# Altium footprint library DRA.PcbLib: 72 footprints (part 4 of 6)
Each footprint in its own frame and in the unit in brackets; x right, y up, seen from the top. Pads: shape width x height; smd on the part's side, far side on the other; paste and mask are expansions set on the pad; w line width, h text height; cw(c..) or ccw(c..) is an arc to the next point about the centre after c.
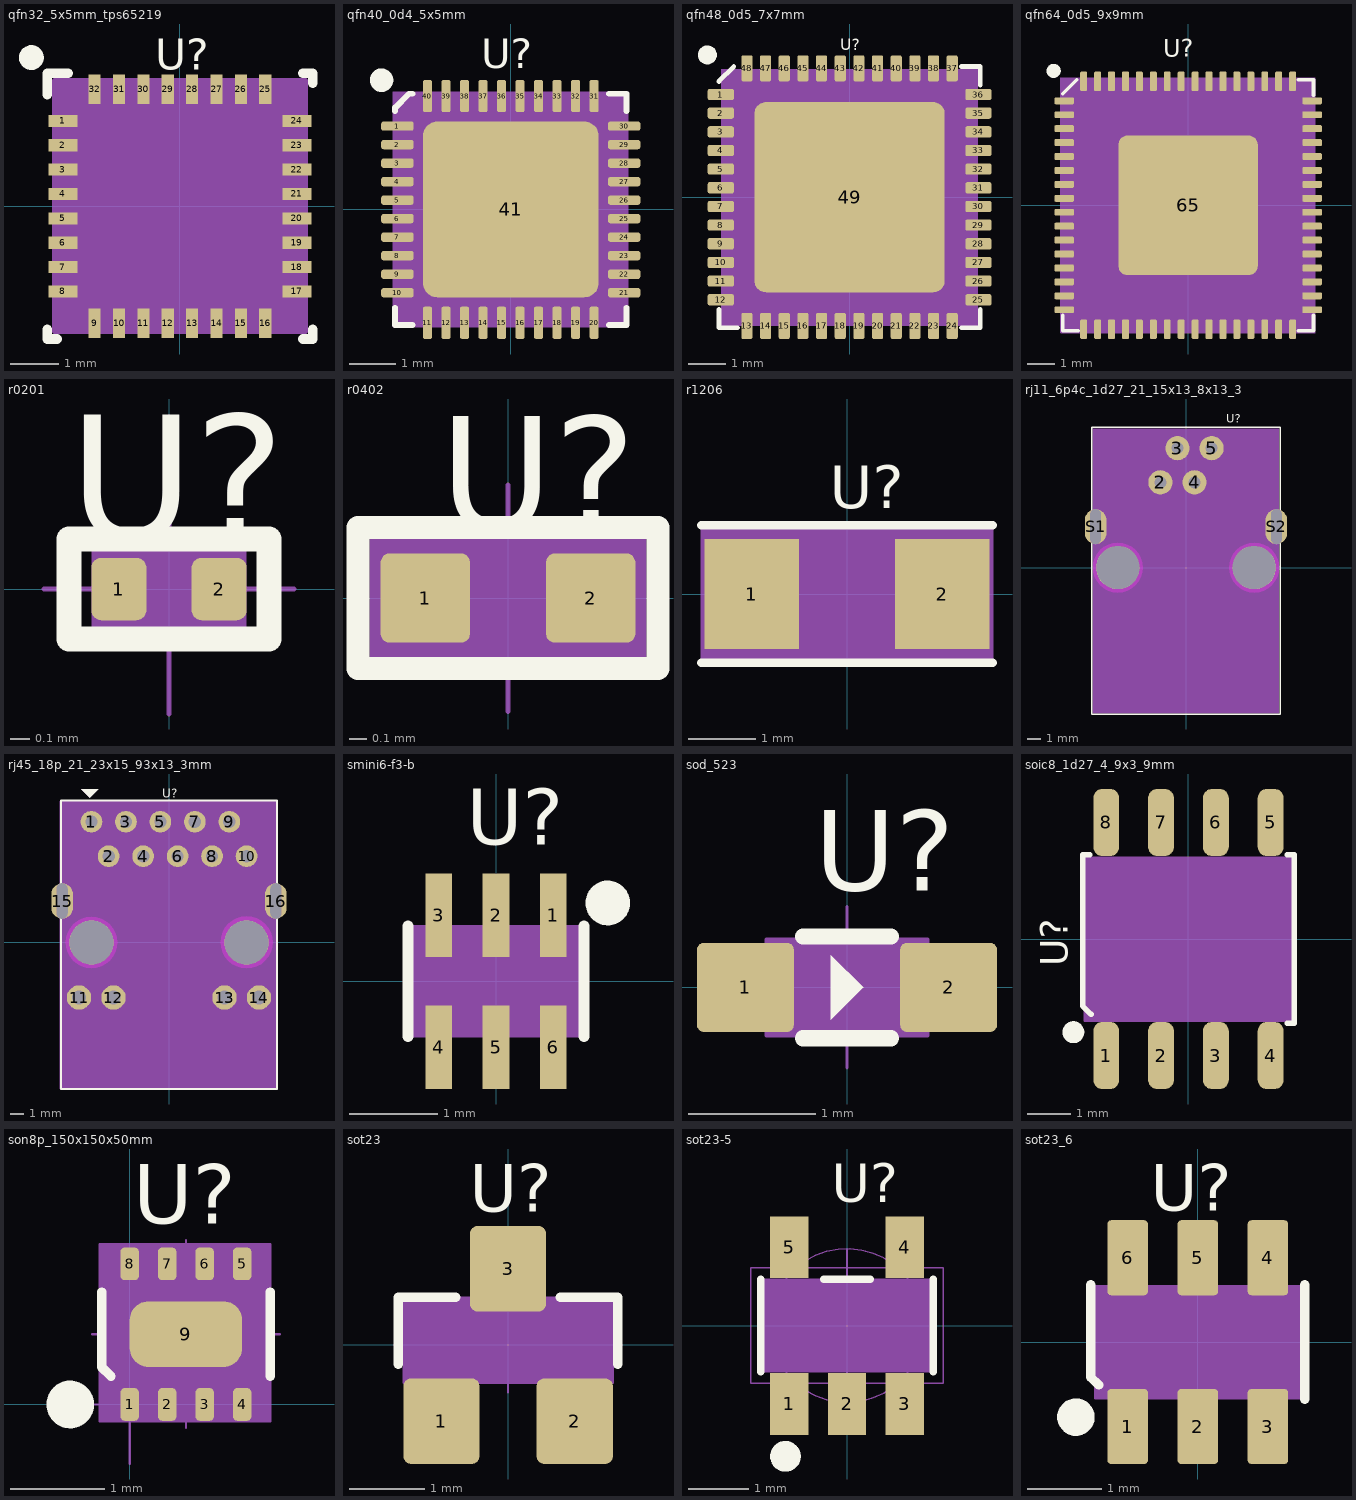
[diagram p3: the footprints below, top view; thin cyan lines are the x and y axes]

## qfn32_5x5mm_tps65219 [mil]
pads (33):
  rect 23.62x9.84 smd: 1(-94.49,68.9) 2(-94.49,49.21) 3(-94.49,29.53) 4(-94.49,9.84) 5(-94.49,-9.84) 6(-94.49,-29.53) 7(-94.49,-49.21) 8(-94.49,-68.9) 17(94.49,-68.9) 18(94.49,-49.21) 19(94.49,-29.53) 20(94.49,-9.84) 21(94.49,9.84) 22(94.49,29.53) 23(94.49,49.21) 24(94.49,68.9)
  rect 9.84x23.62 smd: 9(-68.9,-94.49) 10(-49.21,-94.49) 11(-29.53,-94.49) 12(-9.84,-94.49) 13(9.84,-94.49) 14(29.53,-94.49) 15(49.21,-94.49) 16(68.9,-94.49) 25(68.9,94.49) 26(49.21,94.49) 27(29.53,94.49) 28(9.84,94.49) 29(-9.84,94.49) 30(-29.53,94.49) 31(-49.21,94.49) 32(-68.9,94.49)
  rect 0x0 smd: 33(0,0)
Top Overlay:
  circle w10: c-120,120 r5
  lines w7.87: -107.28,-99.41 -107.28,-107.28 -99.41,-107.28 ; -107.28,90.16 -107.28,107.28 -90.16,107.28 ; 99.41,-107.28 107.28,-107.28 107.28,-99.41 ; 99.41,107.28 107.28,107.28 107.28,99.41
  text "U?" at -20,110 h25
Top Paste:
  dashed: 62.6,60.54 62.6,5.99 62.56,5.59 62.44,5.2 62.25,4.85 62,4.54 61.69,4.28 61.33,4.09 60.95,3.98 60.54,3.94 5.99,3.94 5.59,3.98 5.2,4.09 4.85,4.28 4.54,4.54 4.28,4.85 4.09,5.2 3.98,5.59 3.94,5.99 3.94,60.54 3.98,60.95 4.09,61.33 4.28,61.69 4.54,62 4.85,62.25 5.2,62.44 5.59,62.56 5.99,62.6 60.54,62.6 60.95,62.56 61.33,62.44 61.69,62.25 62,62 62.25,61.69 62.44,61.33 62.56,60.95
  dashed: -62.6,5.99 -62.6,60.54 -62.56,60.95 -62.44,61.33 -62.25,61.69 -62,62 -61.69,62.25 -61.33,62.44 -60.95,62.56 -60.54,62.6 -5.99,62.6 -5.59,62.56 -5.2,62.44 -4.85,62.25 -4.54,62 -4.28,61.69 -4.09,61.33 -3.98,60.95 -3.94,60.54 -3.94,5.99 -3.98,5.59 -4.09,5.2 -4.28,4.85 -4.54,4.54 -4.85,4.28 -5.2,4.09 -5.59,3.98 -5.99,3.94 -60.54,3.94 -60.95,3.98 -61.33,4.09 -61.69,4.28 -62,4.54 -62.25,4.85 -62.44,5.2 -62.56,5.59
  dashed: -62.6,-60.54 -62.6,-5.99 -62.56,-5.59 -62.44,-5.2 -62.25,-4.85 -62,-4.54 -61.69,-4.28 -61.33,-4.09 -60.95,-3.98 -60.54,-3.94 -5.99,-3.94 -5.59,-3.98 -5.2,-4.09 -4.85,-4.28 -4.54,-4.54 -4.28,-4.85 -4.09,-5.2 -3.98,-5.59 -3.94,-5.99 -3.94,-60.54 -3.98,-60.95 -4.09,-61.33 -4.28,-61.69 -4.54,-62 -4.85,-62.25 -5.2,-62.44 -5.59,-62.56 -5.99,-62.6 -60.54,-62.6 -60.95,-62.56 -61.33,-62.44 -61.69,-62.25 -62,-62 -62.25,-61.69 -62.44,-61.33 -62.56,-60.95
  dashed: 62.6,-5.99 62.6,-60.54 62.56,-60.95 62.44,-61.33 62.25,-61.69 62,-62 61.69,-62.25 61.33,-62.44 60.95,-62.56 60.54,-62.6 5.99,-62.6 5.59,-62.56 5.2,-62.44 4.85,-62.25 4.54,-62 4.28,-61.69 4.09,-61.33 3.98,-60.95 3.94,-60.54 3.94,-5.99 3.98,-5.59 4.09,-5.2 4.28,-4.85 4.54,-4.54 4.85,-4.28 5.2,-4.09 5.59,-3.98 5.99,-3.94 60.54,-3.94 60.95,-3.98 61.33,-4.09 61.69,-4.28 62,-4.54 62.25,-4.85 62.44,-5.2 62.56,-5.59
PLACE_BOUND_TOP:
  region: -100,100 -100,-100 100,-100 100,100
DRAWING_ORIGIN:
  lines w1: -25,0 25,0 ; 0,-25 0,25
PIN_NUMBER:
  text "3" at -104.49,29.53 h25
  text "5" at -104.49,-9.84 h25
  text "24" at 74.49,68.9 h25
  text "6" at -104.49,-29.53 h25
  text "7" at -104.49,-49.21 h25
  text "4" at -104.49,9.84 h25
  text "21" at 74.49,9.84 h25
  text "26" at 29.21,94.49 h25
  text "20" at 74.49,-9.84 h25
  text "11" at -49.53,-94.49 h25
  text "10" at -69.21,-94.49 h25
  text "23" at 74.49,49.21 h25
  text "15" at 29.21,-94.49 h25
  text "30" at -49.53,94.49 h25
  text "9" at -78.9,-94.49 h25
  text "29" at -29.84,94.49 h25
  text "22" at 74.49,29.53 h25
  text "16" at 48.9,-94.49 h25
  text "31" at -69.21,94.49 h25
  text "1" at -104.49,68.9 h25
  text "27" at 9.53,94.49 h25
  text "13" at -10.16,-94.49 h25
  text "32" at -88.9,94.49 h25
  text "19" at 74.49,-29.53 h25
  text "33" at -20,0 h25
  text "8" at -104.49,-68.9 h25
  text "28" at -10.16,94.49 h25
  text "18" at 74.49,-49.21 h25
  text "25" at 48.9,94.49 h25
  text "2" at -104.49,49.21 h25
  text "12" at -29.84,-94.49 h25
  text "17" at 74.49,-68.9 h25
  text "14" at 9.53,-94.49 h25
ASSEMBLY_TOP:
  circle w10: c-85,85 r5
  lines w3.94: -101.38,-101.38 -101.38,101.38 ; -101.38,-101.38 101.38,-101.38 ; -101.38,-101.38 101.38,-101.38 ; -101.38,-101.38 -101.38,101.38 ; -101.38,101.38 101.38,101.38 ; -101.38,101.38 101.38,101.38 ; 101.38,-101.38 101.38,101.38 ; 101.38,-101.38 101.38,101.38
  text "U?" at -30,35 h25
  text "U?" at 40,25 h25
3D body: height 150, standoff 0, extent -100,-100 100,100

## qfn40_0d4_5x5mm [mm]
pads (41):
  rrect50% 0.7x0.2 smd: 1(-2.45,1.8) 2(-2.45,1.4) 3(-2.45,1) 4(-2.45,0.6) 5(-2.45,0.2) 6(-2.45,-0.2) 7(-2.45,-0.6) 8(-2.45,-1) 9(-2.45,-1.4) 10(-2.45,-1.8) 21(2.45,-1.8) 22(2.45,-1.4) 23(2.45,-1) 24(2.45,-0.6) 25(2.45,-0.2) 26(2.45,0.2) 27(2.45,0.6) 28(2.45,1) 29(2.45,1.4) 30(2.45,1.8)
  rrect50% 0.2x0.7 smd: 11(-1.8,-2.45) 12(-1.4,-2.45) 13(-1,-2.45) 14(-0.6,-2.45) 15(-0.2,-2.45) 16(0.2,-2.45) 17(0.6,-2.45) 18(1,-2.45) 19(1.4,-2.45) 20(1.8,-2.45) 31(1.8,2.45) 32(1.4,2.45) 33(1,2.45) 34(0.6,2.45) 35(0.2,2.45) 36(-0.2,2.45) 37(-0.6,2.45) 38(-1,2.45) 39(-1.4,2.45) 40(-1.8,2.45)
  rrect16% 3.8x3.8 smd: 41(0,0)
Top Overlay:
  circle w0.254: c-2.794,2.794 r0.127
  lines w0.127: -2.5,-2.124 -2.5,-2.5 -2.124,-2.5 ; -2.5,2.124 -2.5,2.2 -2.2,2.5 -2.124,2.5 ; 2.124,-2.5 2.5,-2.5 2.5,-2.124 ; 2.124,2.5 2.5,2.5 2.5,2.124
  text "U?" at -0.635,3.048 h0.64
PLACE_BOUND_TOP:
  region: -2.54,2.54 -2.54,-2.54 2.54,-2.54 2.54,2.54
DRAWING_ORIGIN:
  lines w0.025: -0.635,0 0.635,0 ; 0,-0.635 0,0.635
PIN_NUMBER:
  text "3" at -2.958,1 h0.64
  text "5" at -2.958,0.2 h0.64
  text "24" at 1.942,-0.6 h0.64
  text "6" at -2.958,-0.2 h0.64
  text "7" at -2.958,-0.6 h0.64
  text "4" at -2.958,0.6 h0.64
  text "21" at 1.942,-1.8 h0.64
  text "37" at -1.108,2.45 h0.64
  text "26" at 1.942,0.2 h0.64
  text "20" at 1.292,-2.45 h0.64
  text "11" at -2.308,-2.45 h0.64
  text "10" at -3.466,-1.8 h0.64
  text "23" at 1.942,-1 h0.64
  text "15" at -0.708,-2.45 h0.64
  text "30" at 1.942,1.8 h0.64
  text "9" at -2.958,-1.4 h0.64
  text "29" at 1.942,1.4 h0.64
  text "35" at -0.308,2.45 h0.64
  text "22" at 1.942,-1.4 h0.64
  text "16" at -0.308,-2.45 h0.64
  text "31" at 1.292,2.45 h0.64
  text "1" at -2.958,1.8 h0.64
  text "41" at -0.508,0 h0.64
  text "27" at 1.942,0.6 h0.64
  text "13" at -1.508,-2.45 h0.64
  text "39" at -1.908,2.45 h0.64
  text "34" at 0.092,2.45 h0.64
  text "38" at -1.508,2.45 h0.64
  text "32" at 0.892,2.45 h0.64
  text "19" at 0.892,-2.45 h0.64
  text "33" at 0.492,2.45 h0.64
  text "8" at -2.958,-1 h0.64
  text "40" at -2.308,2.45 h0.64
  text "28" at 1.942,1 h0.64
  text "18" at 0.492,-2.45 h0.64
  text "25" at 1.942,-0.2 h0.64
  text "2" at -2.958,1.4 h0.64
  text "12" at -1.908,-2.45 h0.64
  text "36" at -0.708,2.45 h0.64
  text "17" at 0.092,-2.45 h0.64
  text "14" at -1.108,-2.45 h0.64
ASSEMBLY_TOP:
  circle w0.254: c-2.159,2.159 r0.127
  lines w0.025: -2.54,-2.54 -2.54,2.54 2.54,2.54 2.54,-2.54 -2.54,-2.54
  text "U?" at -0.381,0.889 h0.64
  text "U?" at -1.651,0.889 h0.64
3D body: height 3.81, standoff 0, extent -2.54,-2.54 2.54,2.54

## qfn48_0d5_7x7mm [mil]
pads (49):
  rrect33% 27.56x11.8 smd: 1(-135.83,108.27) 2(-135.83,88.58) 3(-135.83,68.9) 4(-135.83,49.21) 5(-135.83,29.53) 6(-135.83,9.84) 7(-135.83,-9.84) 8(-135.83,-29.53) 9(-135.83,-49.21) 10(-135.83,-68.9) 11(-135.83,-88.58) 12(-135.83,-108.27) 25(135.83,-108.27) 26(135.83,-88.58) 27(135.83,-68.9) 28(135.83,-49.21) 29(135.83,-29.53) 30(135.83,-9.84) 31(135.83,9.84) 32(135.83,29.53) 33(135.83,49.21) 34(135.83,68.9) 35(135.83,88.58) 36(135.83,108.27)
  rrect33% 11.8x27.56 smd: 13(-108.27,-135.83) 14(-88.58,-135.83) 15(-68.9,-135.83) 16(-49.21,-135.83) 17(-29.53,-135.83) 18(-9.84,-135.83) 19(9.84,-135.83) 20(29.53,-135.83) 21(49.21,-135.83) 22(68.9,-135.83) 23(88.58,-135.83) 24(108.27,-135.83) 37(108.27,135.83) 38(88.58,135.83) 39(68.9,135.83) 40(49.21,135.83) 41(29.53,135.83) 42(9.84,135.83) 43(-9.84,135.83) 44(-29.53,135.83) 45(-49.21,135.83) 46(-68.9,135.83) 47(-88.58,135.83) 48(-108.27,135.83)
  rrect12% 200.78x200.78 smd: 49(0,0)
Top Overlay:
  circle w10: c-150,150 r5
  lines w5: -137.8,-118.11 -137.8,-137.8 -118.11,-137.8 ; -137.8,122.05 -122.05,137.8 ; 118.11,-137.8 137.8,-137.8 137.8,-118.11 ; 118.11,137.8 137.8,137.8 137.8,118.11
  text "U?" at -10,155 h11.81
PLACE_BOUND_TOP:
  region: -135,-135 135,-135 135,135 -135,135
DRAWING_ORIGIN:
  lines w1: -25,0 25,0 ; 0,-25 0,25
PIN_NUMBER:
  text "3" at -145.28,68.9 h11.81
  text "5" at -145.28,29.53 h11.81
  text "24" at 98.82,-135.83 h11.81
  text "45" at -58.66,135.83 h11.81
  text "48" at -117.72,135.83 h11.81
  text "6" at -145.28,9.84 h11.81
  text "7" at -145.28,-9.84 h11.81
  text "4" at -145.28,49.21 h11.81
  text "21" at 39.76,-135.83 h11.81
  text "37" at 98.82,135.83 h11.81
  text "26" at 116.93,-88.58 h11.81
  text "20" at 20.08,-135.83 h11.81
  text "11" at -154.73,-88.58 h11.81
  text "42" at 0.39,135.83 h11.81
  text "10" at -154.73,-68.9 h11.81
  text "49" at -9.45,0 h11.81
  text "23" at 79.13,-135.83 h11.81
  text "46" at -78.35,135.83 h11.81
  text "15" at -78.35,-135.83 h11.81
  text "30" at 116.93,-9.84 h11.81
  text "9" at -145.28,-49.21 h11.81
  text "29" at 116.93,-29.53 h11.81
  text "35" at 116.93,88.58 h11.81
  text "22" at 59.45,-135.83 h11.81
  text "16" at -58.66,-135.83 h11.81
  text "31" at 116.93,9.84 h11.81
  text "1" at -145.28,108.27 h11.81
  text "41" at 20.08,135.83 h11.81
  text "27" at 116.93,-68.9 h11.81
  text "13" at -117.72,-135.83 h11.81
  text "43" at -19.29,135.83 h11.81
  text "39" at 59.45,135.83 h11.81
  text "34" at 116.93,68.9 h11.81
  text "38" at 79.13,135.83 h11.81
  text "47" at -98.03,135.83 h11.81
  text "32" at 116.93,29.53 h11.81
  text "19" at 0.39,-135.83 h11.81
  text "33" at 116.93,49.21 h11.81
  text "8" at -145.28,-29.53 h11.81
  text "44" at -38.98,135.83 h11.81
  text "40" at 39.76,135.83 h11.81
  text "28" at 116.93,-49.21 h11.81
  text "18" at -19.29,-135.83 h11.81
  text "25" at 116.93,-108.27 h11.81
  text "2" at -145.28,88.58 h11.81
  text "12" at -154.73,-108.27 h11.81
  text "36" at 116.93,108.27 h11.81
  text "17" at -38.98,-135.83 h11.81
  text "14" at -98.03,-135.83 h11.81
ASSEMBLY_TOP:
  circle w10: c-120,120 r5
  lines w1: -135,-135 -135,135 135,135 135,-135 -135,-135
  text "U?" at 20,110 h11.81
  text "U?" at -15,105 h11.81
3D body: height 150, standoff 0, extent -135,-135 135,135

## qfn64_0d5_9x9mm [mil]
pads (65):
  rrect40% 27.56x9.84 smd: 1(-175.2,147.64) 2(-175.2,127.95) 3(-175.2,108.27) 4(-175.2,88.58) 5(-175.2,68.9) 6(-175.2,49.21) 7(-175.2,29.53) 8(-175.2,9.84) 9(-175.2,-9.84) 10(-175.2,-29.53) 11(-175.2,-49.21) 12(-175.2,-68.9) 13(-175.2,-88.58) 14(-175.2,-108.27) 15(-175.2,-127.95) 16(-175.2,-147.64) 33(175.2,-147.64) 34(175.2,-127.95) 35(175.2,-108.27) 36(175.2,-88.58) 37(175.2,-68.9) 38(175.2,-49.21) 39(175.2,-29.53) 40(175.2,-9.84) 41(175.2,9.84) 42(175.2,29.53) 43(175.2,49.21) 44(175.2,68.9) 45(175.2,88.58) 46(175.2,108.27) 47(175.2,127.95) 48(175.2,147.64)
  rrect40% 9.84x27.56 smd: 17(-147.64,-175.2) 18(-127.95,-175.2) 19(-108.27,-175.2) 20(-88.58,-175.2) 21(-68.9,-175.2) 22(-49.21,-175.2) 23(-29.53,-175.2) 24(-9.84,-175.2) 25(9.84,-175.2) 26(29.53,-175.2) 27(49.21,-175.2) 28(68.9,-175.2) 29(88.58,-175.2) 30(108.27,-175.2) 31(127.95,-175.2) 32(147.64,-175.2) 49(147.64,175.2) 50(127.95,175.2) 51(108.27,175.2) 52(88.58,175.2) 53(68.9,175.2) 54(49.21,175.2) 55(29.53,175.2) 56(9.84,175.2) 57(-9.84,175.2) 58(-29.53,175.2) 59(-49.21,175.2) 60(-68.9,175.2) 61(-88.58,175.2) 62(-108.27,175.2) 63(-127.95,175.2) 64(-147.64,175.2)
  rrect12% 196.84x196.84 smd: 65(0,0)
Top Overlay:
  circle w10: c-190,190 r5
  lines w5: -177.17,-155.51 -177.17,-177.17 -155.51,-177.17 ; -177.17,157.48 -157.48,177.17 ; 155.51,-177.17 177.17,-177.17 177.17,-155.51 ; 155.51,177.17 177.17,177.17 177.17,155.51
  text "U?" at -35,210 h25
PLACE_BOUND_TOP:
  region: -180,-180 180,-180 180,180 -180,180
DRAWING_ORIGIN:
  lines w1: -25,0 25,0 ; 0,-25 0,25
PIN_NUMBER:
  text "3" at -195.2,108.27 h25
  text "5" at -195.2,68.9 h25
  text "24" at -29.84,-175.2 h25
  text "56" at -10.16,175.2 h25
  text "45" at 155.2,88.58 h25
  text "48" at 155.2,147.64 h25
  text "6" at -195.2,49.21 h25
  text "7" at -195.2,29.53 h25
  text "55" at 9.53,175.2 h25
  text "54" at 29.21,175.2 h25
  text "4" at -195.2,88.58 h25
  text "21" at -88.9,-175.2 h25
  text "64" at -167.64,175.2 h25
  text "37" at 155.2,-68.9 h25
  text "26" at 9.53,-175.2 h25
  text "53" at 48.9,175.2 h25
  text "20" at -108.58,-175.2 h25
  text "59" at -69.21,175.2 h25
  text "11" at -215.2,-49.21 h25
  text "42" at 155.2,29.53 h25
  text "10" at -215.2,-29.53 h25
  text "49" at 127.64,175.2 h25
  text "60" at -88.9,175.2 h25
  text "23" at -49.53,-175.2 h25
  text "61" at -108.58,175.2 h25
  text "50" at 107.95,175.2 h25
  text "46" at 155.2,108.27 h25
  text "15" at -215.2,-127.95 h25
  text "30" at 88.27,-175.2 h25
  text "9" at -195.2,-9.84 h25
  text "29" at 68.58,-175.2 h25
  text "62" at -128.27,175.2 h25
  text "65" at -20,0 h25
  text "35" at 155.2,-108.27 h25
  text "22" at -69.21,-175.2 h25
  text "51" at 88.27,175.2 h25
  text "16" at -215.2,-147.64 h25
  text "31" at 107.95,-175.2 h25
  text "1" at -195.2,147.64 h25
  text "41" at 155.2,9.84 h25
  text "27" at 29.21,-175.2 h25
  text "13" at -215.2,-88.58 h25
  text "43" at 155.2,49.21 h25
  text "58" at -49.53,175.2 h25
  text "39" at 155.2,-29.53 h25
  text "34" at 155.2,-127.95 h25
  text "38" at 155.2,-49.21 h25
  text "47" at 155.2,127.95 h25
  text "32" at 127.64,-175.2 h25
  text "19" at -128.27,-175.2 h25
  text "33" at 155.2,-147.64 h25
  text "57" at -29.84,175.2 h25
  text "63" at -147.95,175.2 h25
  text "52" at 68.58,175.2 h25
  text "8" at -195.2,9.84 h25
  text "44" at 155.2,68.9 h25
  text "40" at 155.2,-9.84 h25
  text "28" at 48.9,-175.2 h25
  text "18" at -147.95,-175.2 h25
  text "25" at -10.16,-175.2 h25
  text "2" at -195.2,127.95 h25
  text "12" at -215.2,-68.9 h25
  text "36" at 155.2,-88.58 h25
  text "17" at -167.64,-175.2 h25
  text "14" at -215.2,-108.27 h25
ASSEMBLY_TOP:
  circle w10: c-163.39,161.81 r5.01
  lines w1: -180,-180 -180,180 180,180 180,-180 -180,-180
  text "U?" at -25,30 h25
  text "U?" at 20,30 h25
3D body: height 150, standoff 0, extent -180,-180 180,180

## r0201 [mil]
pads (2):
  rrect36% 11x12.5 smd: 1(-10.03,0) 2(10.03,0)
Top Overlay:
  lines w5: -20,-10 -20,10 20,10 20,-10 -20,-10
  text "U?" at -20,10 h25
PLACE_BOUND_TOP:
  region: -15,-10 15,-10 15,10 -15,10
DRAWING_ORIGIN:
  lines w1: -25,0 25,0 ; 0,-25 0,25
PIN_NUMBER:
  text "2" at 0.03,0 h25
  text "1" at -20.03,0 h25
ASSEMBLY_TOP:
  lines w1: -15,-10 -15,10 15,10 15,-10 -15,-10
  text "U?" at -10,-10 h25
  text "U?" at -10,-5 h25
3D body: height 150, standoff 0, extent -15,-10 15,10

## r0402 [mil]
pads (2):
  rrect20% 19.68x19.68 smd: 1(-18.21,0) 2(18.21,0)
Top Overlay:
  lines w5: -33.03,-15.53 33.03,-15.53 33.03,15.53 -33.03,15.53 -33.03,-15.53
  text "U?" at -15,15 h25
PLACE_BOUND_TOP:
  region: -30,-15 30,-15 30,15 -30,15
DRAWING_ORIGIN:
  lines w1: -25,0 25,0 ; 0,-25 0,25
PIN_NUMBER:
  text "2" at 8.21,0 h25
  text "1" at -28.21,0 h25
ASSEMBLY_TOP:
  lines w1: -30,-15 -30,15 30,15 30,-15 -30,-15
  text "U?" at 5,-10 h25
  text "U?" at -15,-10 h25
3D body: height 150, standoff 0, extent -30,-15 30,15

## r1206 [mil]
pads (2):
  rect 55x64 smd: 1(-55.5,0) 2(55.5,0)
Top Overlay:
  lines w5: -85,-40 85,-40 ; -85,40 85,40
  text "U?" at -10,50 h25
PLACE_BOUND_TOP:
  region: -85,-40 85,-40 85,40 -85,40
DRAWING_ORIGIN:
  lines w1: -25,0 25,0 ; 0,-25 0,25
PIN_NUMBER:
  text "2" at 46.3,0 h23
  text "1" at -64.7,0 h23
ASSEMBLY_TOP:
  lines w1: -85,-40 -85,40 85,40 85,-40 -85,-40
  text "U?" at -15,-20 h25
  text "U?" at -15,0 h25
3D body: height 150, standoff 0, extent -85,-40 85,40

## rj11_6p4c_1d27_21_15x13_8x13_3 [mil]
pads (8):
  round 70.87 hole 35.43: 2(-75,250) 3(-25,350) 4(25,250) 5(75,350)
  oval 62.99x102.36 hole 31.5 slot 102.36 at 90 deg: S1(-264.96,120.08) S2(264.96,120.08)
  round 125.98 hole 125.98: ""(-200,0) ""(200,0)
Top Overlay:
  lines w3.94: -275.59,-429.13 -275.59,411.42 275.59,411.42 275.59,-429.13 -275.59,-429.13
  text "U?" at 118.11,425.2 h25
PLACE_BOUND_TOP:
  region: -271.65,407.48 -271.65,-425.2 271.65,-425.2 271.65,407.48
Multi-Layer keep-out:
  region: -126.82,0 -128.22,14.28 -132.39,28.01 -139.15,40.66 -148.25,51.75 -159.34,60.85 -171.99,67.61 -185.72,71.78 -200,73.18 -214.28,71.78 -228.01,67.61 -236.43,63.11 -240.66,60.85 -251.75,51.75 -260.85,40.66 -267.61,28.01 -271.78,14.28 -273.18,0 -271.78,-14.28 -267.61,-28.01 -260.85,-40.66 -251.75,-51.75 -240.66,-60.85 -236.43,-63.11 -228.01,-67.61 -214.28,-71.78 -200,-73.18 -185.72,-71.78 -171.99,-67.61 -159.34,-60.85 -148.25,-51.75 -139.15,-40.66 -132.39,-28.01 -128.22,-14.28
  region: 273.18,0 271.78,14.28 267.61,28.01 260.85,40.66 251.75,51.75 240.66,60.85 228.01,67.61 214.28,71.78 200,73.18 185.72,71.78 171.99,67.61 163.57,63.11 159.34,60.85 148.25,51.75 139.15,40.66 132.39,28.01 128.22,14.28 126.82,0 128.22,-14.28 132.39,-28.01 139.15,-40.66 148.25,-51.75 159.34,-60.85 163.57,-63.11 171.99,-67.61 185.72,-71.78 200,-73.18 214.28,-71.78 228.01,-67.61 240.66,-60.85 251.75,-51.75 260.85,-40.66 267.61,-28.01 271.78,-14.28
DRAWING_ORIGIN:
  lines w1: -25,0 25,0 ; 0,-25 0,25
PIN_NUMBER:
  text "3" at -35,350 h25
  text "4" at 15,250 h25
  text "5" at 65,350 h25
  text "S2" at 244.96,120.08 h25
  text "2" at -85,250 h25
  text "S1" at -284.96,120.08 h25
ASSEMBLY_TOP:
  lines w1: -271.65,-425.2 -271.65,407.48 271.65,407.48 271.65,-425.2 -271.65,-425.2
  text "U?" at 129.92,303.15 h25
  text "U?" at 129.92,342.52 h25
3D body: height 150, standoff 0, extent -271.65,-425.2 271.65,407.48

## rj45_18p_21_23x15_93x13_3mm [mil]
pads (18):
  round 62.99 hole 35.43: 1(-225,350) 2(-175,250) 3(-125,350) 4(-75,250) 5(-25,350) 6(25,250) 7(75,350) 8(125,250) 9(175,350) 10(225,250)
  round 70.87 hole 41.34: 11(-261.02,-159.84) 12(-161.02,-159.84) 13(161.02,-159.84) 14(261.02,-159.84)
  oval 62.99x102.36 hole 31.5 slot 102.36 at 90 deg: 15(-310.04,120.08) 16(310.04,120.08)
  round 127.95 hole 127.95: ""(-225,0) ""(225,0)
Top Overlay:
  dashed: -230,420 -255,445 -205,445
  lines w5: -313.58,-425.2 -313.58,411.42 313.58,411.42 313.58,-425.2 -313.58,-425.2
  text "U?" at -20,420 h25
PLACE_BOUND_TOP:
  region: -315,-425 315,-425 315,410 -315,410
Multi-Layer keep-out:
  region: -150.31,0 -151.75,14.57 -156,28.58 -162.9,41.5 -172.19,52.81 -183.5,62.1 -196.42,69 -210.43,73.25 -225,74.69 -239.57,73.25 -253.58,69 -262.18,64.41 -266.5,62.1 -277.81,52.81 -287.1,41.5 -294,28.58 -298.25,14.57 -299.69,0 -298.25,-14.57 -294,-28.58 -287.1,-41.5 -277.81,-52.81 -266.5,-62.1 -262.18,-64.41 -253.58,-69 -239.57,-73.25 -225,-74.69 -210.43,-73.25 -196.42,-69 -183.5,-62.1 -172.19,-52.81 -162.9,-41.5 -156,-28.58 -151.75,-14.57
  region: 300.53,0 299.08,14.74 294.78,28.91 287.8,41.96 278.41,53.41 266.96,62.8 253.91,69.78 239.74,74.08 225,75.53 210.26,74.08 196.09,69.78 187.39,65.13 183.04,62.8 171.59,53.41 162.2,41.96 155.22,28.91 150.92,14.74 149.47,0 150.92,-14.74 155.22,-28.91 162.2,-41.96 171.59,-53.41 183.04,-62.8 187.39,-65.13 196.09,-69.78 210.26,-74.08 225,-75.53 239.74,-74.08 253.91,-69.78 266.96,-62.8 278.41,-53.41 287.8,-41.96 294.78,-28.91 299.08,-14.74
DRAWING_ORIGIN:
  lines w1: -25,0 25,0 ; 0,-25 0,25
PIN_NUMBER:
  text "5" at -35,350 h25
  text "1" at -235,350 h25
  text "9" at 165,350 h25
  text "2" at -185,250 h25
  text "13" at 141.02,-159.84 h25
  text "10" at 205,250 h25
  text "11" at -281.02,-159.84 h25
  text "14" at 241.02,-159.84 h25
  text "7" at 65,350 h25
  text "16" at 290.04,120.08 h25
  text "8" at 115,250 h25
  text "6" at 15,250 h25
  text "15" at -330.04,120.08 h25
  text "3" at -135,350 h25
  text "12" at -181.02,-159.84 h25
  text "4" at -85,250 h25
ASSEMBLY_TOP:
  dashed: -255,445 -205,445 -230,420
  lines w1: -315,-425 -315,410 315,410 315,-425 -315,-425
  text "U?" at -15,0 h25
  text "U?" at -10,5 h25
3D body: height 150, standoff 0, extent -315,-425 315,410

## smini6-f3-b [mil]
pads (6):
  rect 12x37.4 smd: 1(25.59,29.53) 2(0,29.53) 3(-25.59,29.53) 4(-25.59,-29.53) 5(0,-29.53) 6(25.59,-29.53)
Top Overlay:
  circle w10: c50,35 r5
  lines w5: -39.37,-24.61 -39.37,24.61 ; 39.37,-24.61 39.37,24.61
  text "U?" at -13,61 h25
PLACE_BOUND_TOP:
  region: -40,25 -40,-25 40,-25 40,25
DRAWING_ORIGIN:
  lines w1: -25,0 25,0 ; 0,-25 0,25
PIN_NUMBER:
  text "4" at -45.59,-29.53 h25
  text "1" at 5.59,29.53 h25
  text "5" at -20,-29.53 h25
  text "2" at -20,29.53 h25
  text "6" at 5.59,-29.53 h25
  text "3" at -45.59,29.53 h25
ASSEMBLY_TOP:
  circle w1: c26,13 r8.6
  lines w1: -39.37,-24.61 -39.37,24.61 39.37,24.61 39.37,-24.61 -39.37,-24.61 ; -29.53,-41.34 -29.53,-18.7 -21.65,-18.7 -21.65,-41.34 -29.53,-41.34 ; -29.53,18.7 -29.53,41.34 -21.65,41.34 -21.65,18.7 -29.53,18.7 ; -3.94,-41.34 -3.94,-18.7 3.94,-18.7 3.94,-41.34 -3.94,-41.34 ; -3.94,18.7 -3.94,41.34 3.94,41.34 3.94,18.7 -3.94,18.7 ; 21.65,-41.34 21.65,-18.7 29.53,-18.7 29.53,-41.34 21.65,-41.34 ; 21.65,18.7 21.65,41.34 29.53,41.34 29.53,18.7 21.65,18.7
  text "U?" at -18,-41 h25
  text "U?" at -21,-13 h25
3D body: height 150, standoff 0, extent -40,-25 40,25

## sod_523 [mil]
pads (2):
  rrect14% 30x27.56 smd: 1(-31.5,0) 2(31.5,0)
Top Overlay:
  dashed: -5,10 -5,-10 5,0
  lines w5: -13.62,-15.75 13.62,-15.75 ; -13.62,15.75 13.62,15.75
  text "U?" at -10,30 h25
PLACE_BOUND_TOP:
  region: -25,-15 25,-15 25,15 -25,15
DRAWING_ORIGIN:
  lines w1: -25,0 25,0 ; 0,-25 0,25
PIN_NUMBER:
  text "2" at 21.5,0 h25
  text "1" at -41.5,0 h25
ASSEMBLY_TOP:
  lines w1: -25,-15 -25,15 25,15 25,-15 -25,-15
  text "U?" at -5,-10 h25
  text "U?" at -10,-5 h25
3D body: height 150, standoff 0, extent -25,-15 25,15

## soic8_1d27_4_9x3_9mm [mil]
pads (8):
  rrect67% 23.62x61.02 smd: 1(-75,-106.3) 2(-25,-106.3) 3(25,-106.3) 4(75,-106.3) 5(75,106.3) 6(25,106.3) 7(-25,106.3) 8(-75,106.3)
Top Overlay:
  circle w10: c-105,-85 r5
  lines w5: -90,76.77 -96.46,76.77 -96.46,-61.02 -88.74,-68.74 ; 90,-76.77 96.46,-76.77 96.46,76.77 90,76.77
  text "U?" at -110,-25 h25
PLACE_BOUND_TOP:
  region: -95,-75 95,-75 95,75 -95,75
DRAWING_ORIGIN:
  lines w1: -25,0 25,0 ; 0,-25 0,25
PIN_NUMBER:
  text "5" at 65,106.3 h25
  text "8" at -85,106.3 h25
  text "1" at -85,-106.3 h25
  text "6" at 15,106.3 h25
  text "2" at -35,-106.3 h25
  text "7" at -35,106.3 h25
  text "4" at 65,-106.3 h25
  text "3" at 15,-106.3 h25
ASSEMBLY_TOP:
  circle w10: c-85,-65 r5
  lines w1: -95,-75 -95,75 95,75 95,-75 -95,-75
  text "U?" at -20,-35 h25
  text "U?" at -20,0 h25
3D body: height 150, standoff 0, extent -95,-75 95,75

## son8p_150x150x50mm [mm]
pads (9):
  rrect50% 0.2x0.35 smd: 1(0,0) 2(0.4,0) 3(0.8,0) 4(1.2,0) 5(1.2,1.5) 6(0.8,1.5) 7(0.4,1.5) 8(0,1.5)
  rrect57% 1.2x0.7 smd: 9(0.6,0.75)
Top Overlay:
  circle w0.254: c-0.635,0 r0.127
  lines w0.1: -0.3,1.2 -0.3,0.4 -0.2,0.3 ; 1.5,0.3 1.5,1.2
  text "U?" at 0.04,1.93 h0.64
PLACE_BOUND_TOP:
  region: -0.32,-0.18 1.5,-0.18 1.5,1.71 -0.32,1.71
~ALV:
  dashed: 0.162,0 0.115,0.115 0,0.162 -0.076,0.131 -0.115,0.115 -0.162,0 -0.115,-0.115 -0.076,-0.131 0,-0.162 0.115,-0.115
DRAWING_ORIGIN:
  lines w0.025: -0.635,0 0.635,0 ; 0,-0.635 0,0.635
PIN_NUMBER:
  text "1" at -0.08,0 h0.2
  text "8" at -0.08,1.5 h0.2
  text "2" at 0.32,0 h0.2
  text "9" at 0.52,0.75 h0.2
  text "4" at 1.12,0 h0.2
  text "5" at 1.12,1.5 h0.2
  text "3" at 0.72,0 h0.2
  text "7" at 0.32,1.5 h0.2
  text "6" at 0.72,1.5 h0.2
ASSEMBLY_TOP:
  circle w0.025: c0.1,0.25 r0.2
  lines w0.025: -0.32,-0.18 -0.32,1.71 1.5,1.71 1.5,-0.18 -0.32,-0.18
  text "U?" at 0,0.635 h0.64
  text "U?" at 0.08,0.47 h0.64
BODY_CENTER:
  lines w0.025: -0.4,0.75 0.6,0.75 ; 0.6,-0.25 0.6,0.75 ; 0.6,1.75 0.6,0.75 ; 1.6,0.75 0.6,0.75
3D body: height 3.81, standoff 0, extent -0.32,-0.18 1.5,1.71

## sot23 [mil]
pads (3):
  rrect20% 40x45 smd: 1(-35,-40) 2(35,-40) 3(0,40)
Top Overlay:
  lines w5: -57.58,-10 -57.58,25 ; -57.5,25 -27.5,25 ; 27.5,25 57.5,25 57.5,-10
  text "U?" at -20,70 h25
PLACE_BOUND_TOP:
  region: -55,-20 55,-20 55,25 -55,25
DRAWING_ORIGIN:
  lines w1: -25,0 25,0 ; 0,-25 0,25
PIN_NUMBER:
  text "3" at -10,40 h25
  text "2" at 25,-40 h25
  text "1" at -45,-40 h25
ASSEMBLY_TOP:
  lines w1: -55,-20 -55,25 55,25 55,-20 -55,-20
  text "U?" at -20,-15 h25
  text "U?" at 10,-10 h25
3D body: height 150, standoff 0, extent -55,-20 55,25

## sot23-5 [mil]
pads (5):
  rect 25x40 smd: 1(-37.5,-51) 2(0,-51) 3(37.5,-51) 4(37.5,51) 5(-37.5,51)
Top Overlay:
  circle w10: c-40,-85 r5
  lines w5: -56,-30 -56,30 ; -15,30 15,30 ; 56,-30 56,30
  text "U?" at -10,80 h25
PLACE_BOUND_TOP:
  region: -55,-30 55,-30 55,30 -55,30
DRAWING_ORIGIN:
  lines w1: -25,0 25,0 ; 0,-25 0,25
PIN_NUMBER:
  text "3" at 27.5,-51 h25
  text "1" at -47.5,-51 h25
  text "5" at -47.5,51 h25
  text "4" at 27.5,51 h25
  text "2" at -10,-51 h25
ASSEMBLY_TOP:
  circle w10: c-40,-15 r5
  lines w1: -62.5,-37.5 -62.5,37.5 62.5,37.5 62.5,-37.5 -62.5,-37.5 ; -55,-30 -55,30 55,30 55,-30 -55,-30
  text "U?" at -25,0 h25
  text "U?" at -15,-25 h25
BODY_CENTER:
  circle w1: c0,0 r50
  lines w1: -50,0 50,0 ; 0,-50 0,50
3D body: height 150, standoff 0, extent -55,-30 55,30

## sot23_6 [mil]
pads (6):
  rrect18% 21.64x40 smd: 1(-37.4,-45) 2(0,-45) 3(37.4,-45) 4(37.4,45) 5(0,45) 6(-37.4,45)
Top Overlay:
  circle w10: c-65,-40 r5
  lines w5: -57.09,30.51 -57.09,-18.7 -52.89,-22.89 ; 57.09,-30.51 57.09,30.51
  text "U?" at -25,70 h25
PLACE_BOUND_TOP:
  region: -55,-30 55,-30 55,30 -55,30
DRAWING_ORIGIN:
  lines w1: -25,0 25,0 ; 0,-25 0,25
PIN_NUMBER:
  text "3" at 27.4,-45 h25
  text "5" at -10,45 h25
  text "1" at -47.4,-45 h25
  text "6" at -47.4,45 h25
  text "2" at -10,-45 h25
  text "4" at 27.4,45 h25
ASSEMBLY_TOP:
  circle w10: c-45,-20 r5
  lines w1: -55,-30 -55,30 55,30 55,-30 -55,-30
  text "U?" at -10,0 h25
  text "U?" at -5,-20 h25
3D body: height 150, standoff 0, extent -55,-30 55,30